# EAGLE library part MSF7 (library con-lumberg MSX)
MSF CONNECTOR
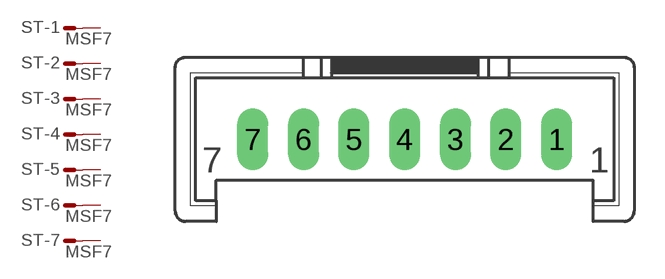
[diagram p21: symbol with the pads of MSF7; footprint MSF7]

Designator prefix ST; gates -1=M -2=M -3=M -4=M -5=M -6=M -7=M

## MSF7 (OC_FARNELL: unknown; OC_NEWARK: unknown)  [MSF7]
1  -1:S  pas
2  -2:S  pas
3  -3:S  pas
4  -4:S  pas
5  -5:S  pas
6  -6:S  pas
7  -7:S  pas

## Footprint MSF7 (pad centres in mm)
MSF CONNECTOR
drill 1.016 long: 1 7.518,-2.54; 2 5.004,-2.54; 3 2.515,-2.54; 4 0,-2.54; 5 -2.515,-2.54; 6 -5.004,-2.54; 7 -7.518,-2.54